# EAGLE library part 7SEG-2-0.4-CA (library dtb)
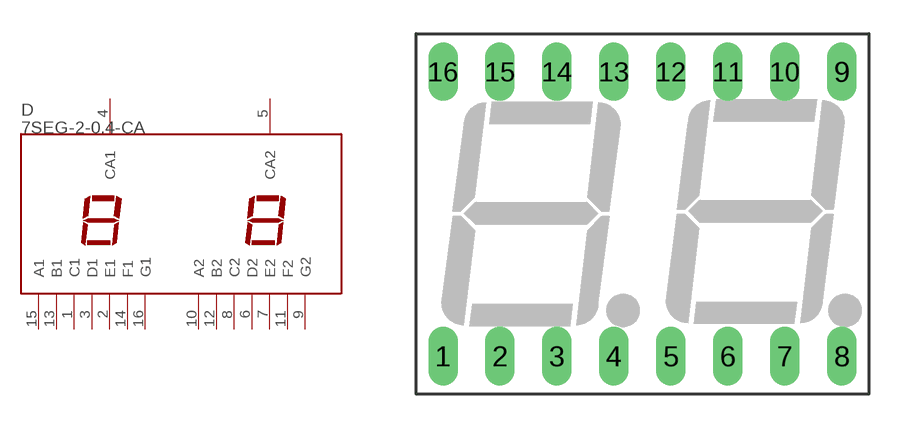
[diagram p4: symbol with the pads of 7-SEG-2-0.4; footprint 7-SEG-2-0.4]

Designator prefix D

## 7SEG-2-0.4-CA  [7-SEG-2-0.4]
1  C1  pas
2  E1  pas
3  D1  pas
4  CA1  pas
5  CA2  pas
6  D2  pas
7  E2  pas
8  C2  pas
9  G2  pas
10  A2  pas
11  F2  pas
12  B2  pas
13  B1  pas
14  F1  pas
15  A1  pas
16  G1  pas

## Footprint 7-SEG-2-0.4 (pad centres in mm)
drill 0.8 long: 1 0,0; 2 2.54,0; 3 5.08,0; 4 7.62,0; 5 10.16,0; 6 12.7,0; 7 15.24,0; 8 17.78,0; 9 17.78,12.7; 10 15.24,12.7; 11 12.7,12.7; 12 10.16,12.7; 13 7.62,12.7; 14 5.08,12.7; 15 2.54,12.7; 16 0,12.7